# EAGLE library part SQUARE_INDUCTIVE_COILGROU (library coils)
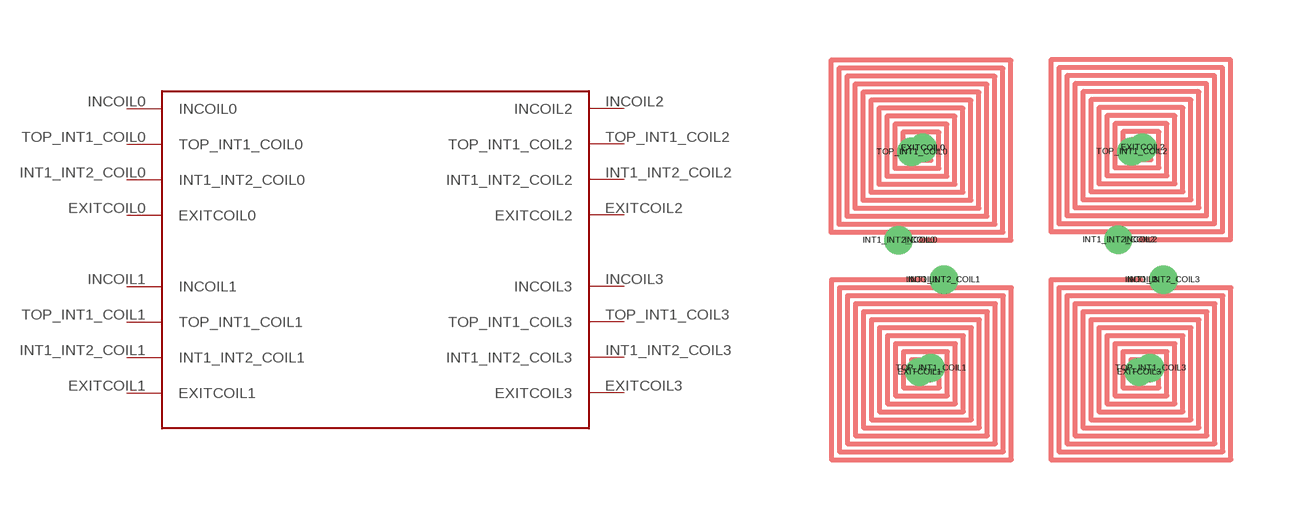
[diagram p0: symbol with the pads of SQUARE; footprint SQUARE]

Designator prefix -

## SQUARE_INDUCTIVE_COILGROU  [SQUARE]
EXITCOIL0  EXITCOIL0
EXITCOIL1  EXITCOIL1
EXITCOIL2  EXITCOIL2
EXITCOIL3  EXITCOIL3
INCOIL0  INCOIL0
INCOIL1  INCOIL1
INCOIL2  INCOIL2
INCOIL3  INCOIL3
INT1_INT2_COIL0  INT1_INT2_COIL0
INT1_INT2_COIL1  INT1_INT2_COIL1
INT1_INT2_COIL2  INT1_INT2_COIL2
INT1_INT2_COIL3  INT1_INT2_COIL3
TOP_INT1_COIL0  TOP_INT1_COIL0
TOP_INT1_COIL1  TOP_INT1_COIL1
TOP_INT1_COIL2  TOP_INT1_COIL2
TOP_INT1_COIL3  TOP_INT1_COIL3

## Footprint SQUARE (pad centres in mm)
drill 0.2 pad 0.254: EXITCOIL0 0.03,0.08; EXITCOIL1 -0.05,-5.53; EXITCOIL2 5.53,0.09; EXITCOIL3 5.44,-5.53; INT1_INT2_COIL0 -0.58,-2.23; INT1_INT2_COIL1 0.56,-3.22; INT1_INT2_COIL2 4.92,-2.22; INT1_INT2_COIL3 6.05,-3.22; TOP_INT1_COIL0 -0.25,-0.02; TOP_INT1_COIL1 0.23,-5.43; TOP_INT1_COIL2 5.25,-0.01; TOP_INT1_COIL3 5.72,-5.43
smd 0.125 x 0.125: INCOIL0 -0.02,-2.23; INCOIL1 0.01,-3.22; INCOIL2 5.48,-2.22; INCOIL3 5.49,-3.22